# Altium schematic symbol library CRCW1206174KFKEA.SchLib: 1 symbol
Pins are listed as number, name and electrical type; pins without a type are passive.

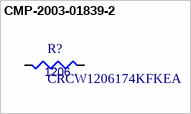
[diagram p0: symbol CMP-2003-01839-2]

## CMP-2003-01839-2
designator R?, comment CRCW1206174KFKEA
RES Thick Film, 174kΩ, 1%, 0.25W, 100ppm/°C, 1206
footprint PCBComponent_1
pins: 1, 2
text: 1206